# EAGLE library part SKAARDUINO_BACK_EDGECON (library SKAARHOJ)
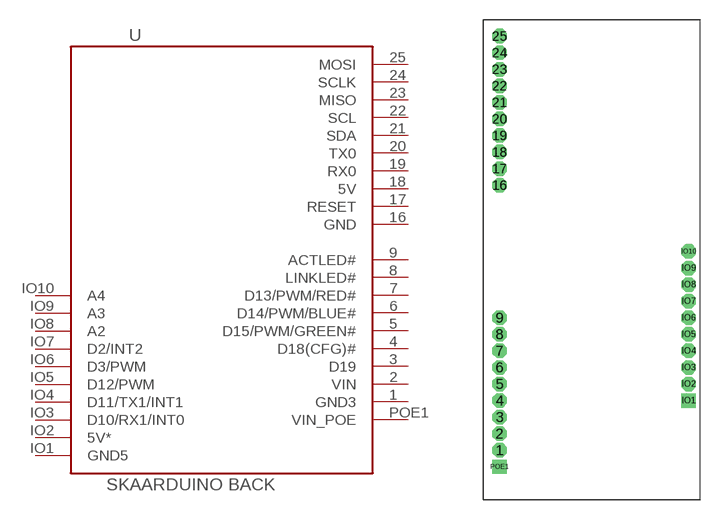
[diagram p67: symbol with the pads of SKAARDUINO_BACK_PTH_EDGECON; footprint SKAARDUINO_BACK_PTH_EDGECON]

Designator prefix -

## SKAARDUINO_BACK_EDGECON  [SKAARDUINO_BACK_PTH_EDGECON]
1  GND3  pwr
2  VIN  pwr
3  D19
4  D18(CFG)#  in
5  D15/PWM/GREEN#  out
6  D14/PWM/BLUE#  out
7  D13/PWM/RED#  out
8  LINKLED#  out
9  ACTLED#  out
16  GND  pwr
17  RESET  in
18  5V  pwr
19  RX0  in
20  TX0  out
21  SDA
22  SCL
23  MISO  in
24  SCLK  out
25  MOSI  out
IO1  GND5  pwr
IO2  5V*  pwr
IO3  D10/RX1/INT0
IO4  D11/TX1/INT1
IO5  D12/PWM
IO6  D3/PWM
IO7  D2/INT2
IO8  A2
IO9  A3
IO10  A4
POE1  VIN_POE  pwr

## Footprint SKAARDUINO_BACK_PTH_EDGECON (pad centres in mm)
drill 0.6 pad 1.016 octagon: 1 2.159,3.81; 2 2.159,5.08; 3 2.159,6.35; 4 2.159,7.62; 5 2.159,8.89; 6 2.159,10.16; 7 2.159,11.43; 8 2.159,12.7; 9 2.159,13.97; 16 2.159,24.13; 17 2.159,25.4; 18 2.159,26.67; 19 2.159,27.94; 20 2.159,29.21; 21 2.159,30.48; 22 2.159,31.75; 23 2.159,33.02; 24 2.159,34.29; 25 2.159,35.56; IO2 16.637,8.89; IO3 16.637,10.16; IO4 16.637,11.43; IO5 16.637,12.7; IO6 16.637,13.97; IO7 16.637,15.24; IO8 16.637,16.51; IO9 16.637,17.78; IO10 16.637,19.05
drill 0.6 pad 1.016 square: IO1 16.637,7.62; POE1 2.159,2.54